# EAGLE library part DF20F-10DP-1V(56) (library wicker)
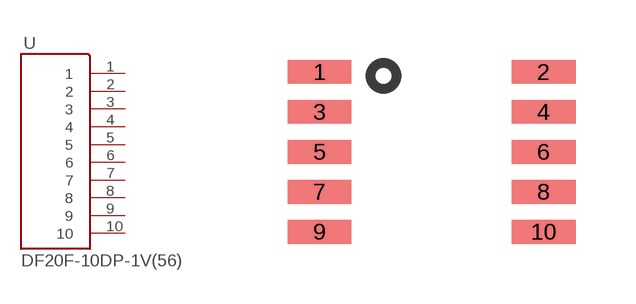
[diagram p3: symbol with the pads of DF20F-10DP; footprint DF20F-10DP]

Designator prefix -

## DF20F-10DP-1V(56)  [DF20F-10DP]
1  1
2  2
3  3
4  4
5  5
6  6
7  7
8  8
9  9
10  10

## Footprint DF20F-10DP (pad centres in mm)
smd 1.6 x 0.6: 1 -2.8,2; 2 2.8,2; 3 -2.8,1; 4 2.8,1; 5 -2.8,0; 6 2.8,0; 7 -2.8,-1; 8 2.8,-1; 9 -2.8,-2; 10 2.8,-2